# EAGLE library part M0 (library M0)
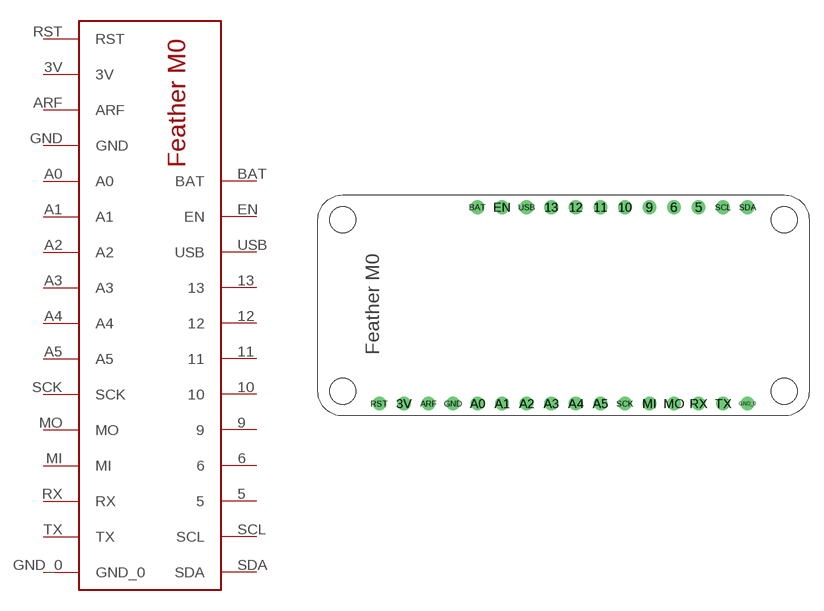
[diagram p0: symbol with the pads of M0; footprint M0]

Designator prefix -

## M0  [M0]
3V  3V
5  5
6  6
9  9
10  10
11  11
12  12
13  13
A0  A0
A1  A1
A2  A2
A3  A3
A4  A4
A5  A5
ARF  ARF
BAT  BAT
EN  EN
GND  GND
GND_0  GND_0
MI  MI
MO  MO
RST  RST
RX  RX
SCK  SCK
SCL  SCL
SDA  SDA
TX  TX
USB  USB

## Footprint M0 (pad centres in mm)
drill 0.9: 3V -6.35,-10.16; 5 24.13,10.16; 6 21.59,10.16; 9 19.05,10.16; 10 16.51,10.16; 11 13.97,10.16; 12 11.43,10.16; 13 8.89,10.16; A0 1.27,-10.16; A1 3.81,-10.16; A2 6.35,-10.16; A3 8.89,-10.16; A4 11.43,-10.16; A5 13.97,-10.16; ARF -3.81,-10.16; BAT 1.27,10.16; EN 3.81,10.16; GND -1.27,-10.16; GND_0 29.21,-10.16; MI 19.05,-10.16; MO 21.59,-10.16; RST -8.89,-10.16; RX 24.13,-10.16; SCK 16.51,-10.16; SCL 26.67,10.16; SDA 29.21,10.16; TX 26.67,-10.16; USB 6.35,10.16
hole 2.692 at 33.02,8.89
hole 2.692 at -12.7,8.89
hole 2.692 at -12.7,-8.89
hole 2.692 at 33.02,-8.89